# EAGLE library part ARDUINO-PRO-MICRO (library SPCoast)
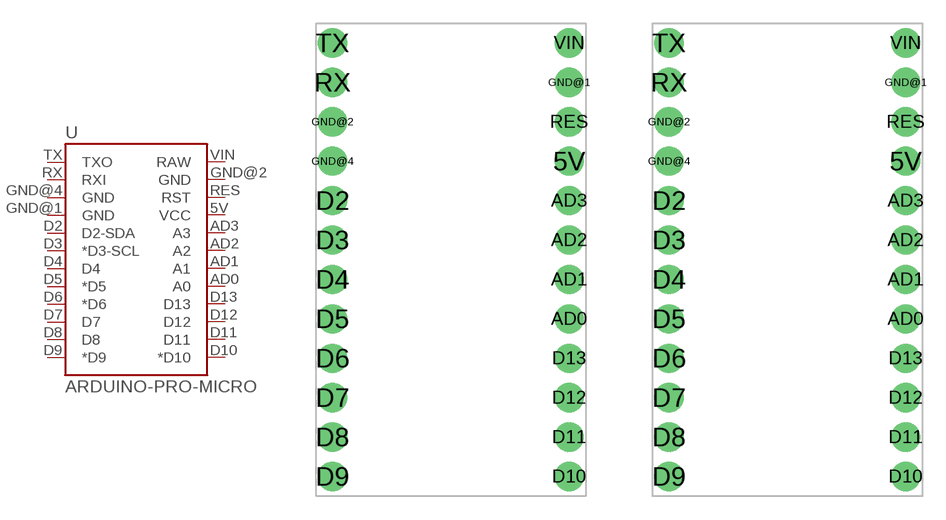
[diagram p58: symbol with the pads of ARDUINO-PRO-MICRO; footprints ARDUINO-PRO-MICRO, ARDUINO-PRO-MICRO-NOSILK]

Designator prefix -

## ARDUINO-PRO-MICROEBAY  [ARDUINO-PRO-MICRO]
5V  VCC
AD0  A0
AD1  A1
AD2  A2
AD3  A3
D2  D2-SDA
D3  *D3-SCL
D4  D4
D5  *D5
D6  *D6
D7  D7
D8  D8
D9  *D9
D10  *D10
D11  D11
D12  D12
D13  D13
GND@1  GND
GND@2  GND
GND@4  GND
RES  RST
RX  RXI
TX  TXO
VIN  RAW

## ARDUINO-PRO-MICRO  [ARDUINO-PRO-MICRO-NOSILK]
Pads as for ARDUINO-PRO-MICRO

## Footprint ARDUINO-PRO-MICRO (pad centres in mm)
drill 1.016 pad 1.88: 5V 7.62,5.08; AD0 7.62,-5.08; AD1 7.62,-2.54; AD2 7.62,0; AD3 7.62,2.54; D2 -7.62,2.54; D3 -7.62,0; D4 -7.62,-2.54; D5 -7.62,-5.08; D6 -7.62,-7.62; D7 -7.62,-10.16; D8 -7.62,-12.7; D9 -7.62,-15.24; D10 7.62,-15.24; D11 7.62,-12.7; D12 7.62,-10.16; D13 7.62,-7.62; GND@1 7.62,10.16; GND@2 -7.62,7.62; GND@4 -7.62,5.08; RES 7.62,7.62; RX -7.62,10.16; TX -7.62,12.7; VIN 7.62,12.7

## Footprint ARDUINO-PRO-MICRO-NOSILK (pad centres in mm)
drill 1.016 pad 1.88: 5V 7.62,5.08; AD0 7.62,-5.08; AD1 7.62,-2.54; AD2 7.62,0; AD3 7.62,2.54; D2 -7.62,2.54; D3 -7.62,0; D4 -7.62,-2.54; D5 -7.62,-5.08; D6 -7.62,-7.62; D7 -7.62,-10.16; D8 -7.62,-12.7; D9 -7.62,-15.24; D10 7.62,-15.24; D11 7.62,-12.7; D12 7.62,-10.16; D13 7.62,-7.62; GND@1 7.62,10.16; GND@2 -7.62,7.62; GND@4 -7.62,5.08; RES 7.62,7.62; RX -7.62,10.16; TX -7.62,12.7; VIN 7.62,12.7